# EAGLE library part RICKK2_W25Q-FLASH (library FeatherRTC)
8Mbit (1M x 8-bit) $0.41 https://www.digikey.com/product-detail/en/winbond-electronics/W25Q80DVSSIG/W25Q80DVSSIG-ND/4836572 16Mbit $0.68 https://www.digikey.com/product-detail/en/winbond-electronics/W25Q16FWSSIQ/W25Q16FWSSIQ-ND/5803950 32Mbit $0.78 Winbond W25Q32JV IC FLASH 32MBIT 133MHZ 8SOP FLASH - NOR Memory IC 32Mb (4M x 8) SPI 133MHz 8-SOIC 8-SOIC (0.209", 5.30mm Width) 2.7 V ~ 3.6 V 133 Mhz https://www.digikey.com/product-detail/en/winbond-electronics/W25Q32JVSSIQ/W25Q32JVSSIQ-ND/5803981 64 Mbit $1.41 https://www.digikey.com/product-detail/en/winbond-electronics/W25Q64FWSSIG/W25Q64FWSSIG-ND/4037479 128 Mbit $ 1.75 https://www.digikey.com/product-detail/en/winbond-electronics/W25Q128JVSIQ/W25Q128JVSIQ-ND/5803943
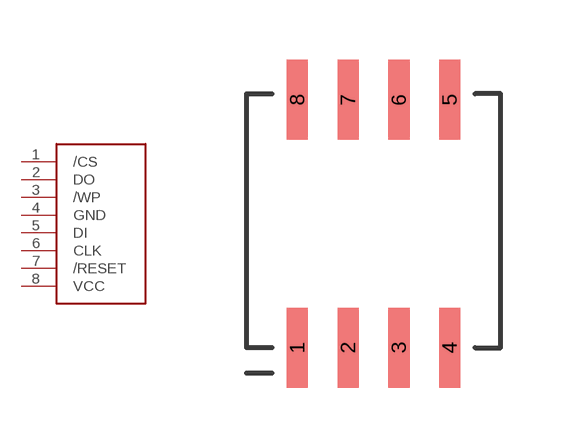
[diagram p2: symbol with the pads of RICKK2_8-SOIC-WINBOND-208; footprint RICKK2_8-SOIC-WINBOND-208]

Designator prefix -

## RICKK2_W25Q-FLASH  [RICKK2_8-SOIC-WINBOND-208]
1  /CS  in
2  DO  out
3  /WP  in
4  GND  pwr
5  DI  in
6  CLK  in
7  /RESET  in
8  VCC  pwr

## Footprint RICKK2_8-SOIC-WINBOND-208 (pad centres in mm)
smd 0.53 x 2: 1 0,0; 2 1.27,0; 3 2.54,0; 4 3.81,0; 5 3.81,6.2; 6 2.54,6.2; 7 1.27,6.2; 8 0,6.2